# Altium schematic symbol library AK4493SEQ.SchLib: 1 symbol
Pins are listed as number, name and electrical type; pins without a type are passive.

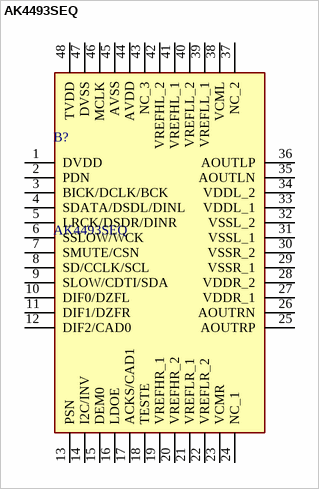
[diagram p0: symbol AK4493SEQ]

## AK4493SEQ
designator B?
Audio D/A Converter ICs Premium DAC Gen3+ 32bit 768kHz 125dB 2ch DSD SCDF; Manufacturer_Name: Asahi Kasei Microdevices; Geometry.Height: 1.6mm; Manufacturer_Part_Number: AK4493SEQ; Mouser Part Number: 412-AK4493SEQ; Mouser Price/Stock: https://www.mouser.co.uk/ProductDetail/Asahi-Kasei-Microdevices/AK4493SEQ?qs=vvQtp7zwQdNLz7hR9sAnvg%3D%3D; Arrow Part Number: AK4493SEQ; Arrow Price/Stock: https://www.arrow.com/en/products/ak4493seq/asahi-kasei-microdevices-corporation?region=nac; Datasheet Link: https://info2.akm.com/NTY4LUFQSi0yNTUAAAGIKypGfocQFOnegEJYsrVIex-YBlHLm3GLtyIKKfwqo7Ul6QoYTQp5_r0JA_JYYGJWnu6VszM=
footprint QFP50P900X900X160-48N
pins: 1 DVDD, 2 PDN, 3 BICK/DCLK/BCK, 4 SDATA/DSDL/DINL, 5 LRCK/DSDR/DINR, 6 SSLOW/WCK, 7 SMUTE/CSN, 8 SD/CCLK/SCL, 9 SLOW/CDTI/SDA, 10 DIF0/DZFL, 11 DIF1/DZFR, 12 DIF2/CAD0, 13 PSN, 14 I2C/INV, 15 DEM0, 16 LDOE, 17 ACKS/CAD1, 18 TESTE, 19 VREFHR_1, 20 VREFHR_2, 21 VREFLR_1, 22 VREFLR_2, 23 VCMR, 24 NC_1, 25 AOUTRP, 26 AOUTRN, 27 VDDR_1, 28 VDDR_2, 29 VSSR_1, 30 VSSR_2, 31 VSSL_1, 32 VSSL_2, 33 VDDL_1, 34 VDDL_2, 35 AOUTLN, 36 AOUTLP, 37 NC_2, 38 VCML, 39 VREFLL_1, 40 VREFLL_2, 41 VREFHL_1, 42 VREFHL_2, 43 NC_3, 44 AVDD, 45 AVSS, 46 MCLK, 47 DVSS, 48 TVDD